# Altium footprint library QFN50P400X400X80-25N-D.PcbLib: 1 footprints
Each footprint in its own frame and in the unit in brackets; x right, y up, seen from the top. Pads: shape width x height; smd on the part's side, far side on the other; paste and mask are expansions set on the pad; w line width, h text height; cw(c..) or ccw(c..) is an arc to the next point about the centre after c.
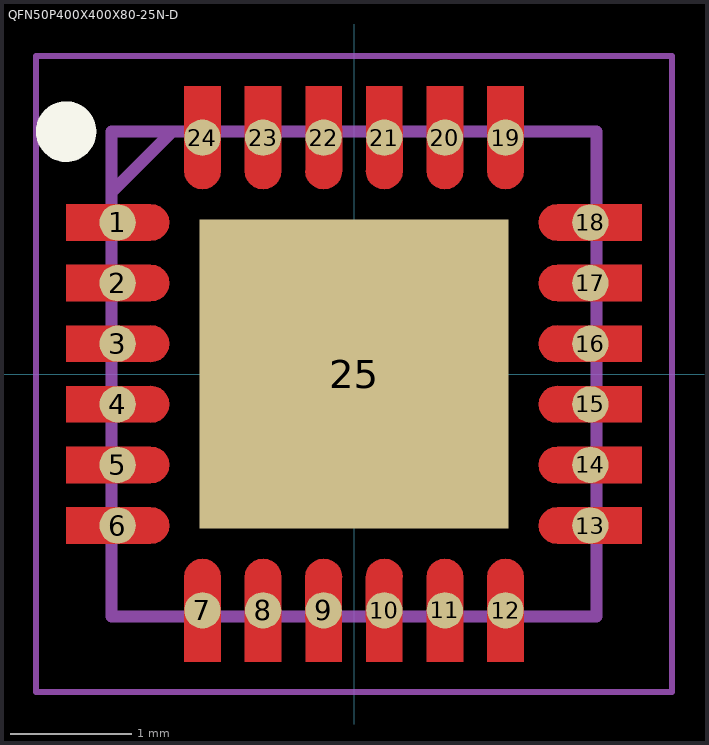
[diagram p0: the footprint, top view; thin cyan lines are the x and y axes]

## QFN50P400X400X80-25N-D [mm]
pads (25):
  round 0.3 smd: 1(-1.95,1.25) 2(-1.95,0.75) 3(-1.95,0.25) 4(-1.95,-0.25) 5(-1.95,-0.75) 6(-1.95,-1.25) 7(-1.25,-1.95) 8(-0.75,-1.95) 9(-0.25,-1.95) 10(0.25,-1.95) 11(0.75,-1.95) 12(1.25,-1.95) 13(1.95,-1.25) 14(1.95,-0.75) 15(1.95,-0.25) 16(1.95,0.25) 17(1.95,0.75) 18(1.95,1.25) 19(1.25,1.95) 20(0.75,1.95) 21(0.25,1.95) 22(-0.25,1.95) 23(-0.75,1.95) 24(-1.25,1.95)
  rrect0% 2.55x2.55 smd: 25(0,0)
Top Layer:
  region: -1.1,2.375 -1.099,1.675 -1.104,1.636 -1.119,1.599 -1.143,1.568 -1.174,1.544 -1.211,1.529 -1.25,1.524 -1.289,1.529 -1.326,1.544 -1.357,1.568 -1.381,1.599 -1.396,1.636 -1.401,1.675 -1.4,1.675 -1.4,2.375
  region: -0.6,2.375 -0.599,1.675 -0.604,1.636 -0.619,1.599 -0.643,1.568 -0.674,1.544 -0.711,1.529 -0.75,1.524 -0.789,1.529 -0.826,1.544 -0.857,1.568 -0.881,1.599 -0.896,1.636 -0.901,1.675 -0.9,1.675 -0.9,2.375
  region: -0.1,2.375 -0.099,1.675 -0.104,1.636 -0.119,1.599 -0.143,1.568 -0.174,1.544 -0.211,1.529 -0.25,1.524 -0.289,1.529 -0.326,1.544 -0.357,1.568 -0.381,1.599 -0.396,1.636 -0.401,1.675 -0.4,1.675 -0.4,2.375
  region: 0.4,2.375 0.401,1.675 0.396,1.636 0.381,1.599 0.357,1.568 0.326,1.544 0.289,1.529 0.25,1.524 0.211,1.529 0.174,1.544 0.143,1.568 0.119,1.599 0.104,1.636 0.099,1.675 0.1,1.675 0.1,2.375
  region: 0.9,2.375 0.901,1.675 0.896,1.636 0.881,1.599 0.857,1.568 0.826,1.544 0.789,1.529 0.75,1.524 0.711,1.529 0.674,1.544 0.643,1.568 0.619,1.599 0.604,1.636 0.599,1.675 0.6,1.675 0.6,2.375
  region: 1.4,2.375 1.401,1.675 1.396,1.636 1.381,1.599 1.357,1.568 1.326,1.544 1.289,1.529 1.25,1.524 1.211,1.529 1.174,1.544 1.143,1.568 1.119,1.599 1.104,1.636 1.099,1.675 1.1,1.675 1.1,2.375
  region: 2.375,1.1 1.675,1.099 1.636,1.104 1.599,1.119 1.568,1.143 1.544,1.174 1.529,1.211 1.524,1.25 1.529,1.289 1.544,1.326 1.568,1.357 1.599,1.381 1.636,1.396 1.675,1.401 1.675,1.4 2.375,1.4
  region: 2.375,0.6 1.675,0.599 1.636,0.604 1.599,0.619 1.568,0.643 1.544,0.674 1.529,0.711 1.524,0.75 1.529,0.789 1.544,0.826 1.568,0.857 1.599,0.881 1.636,0.896 1.675,0.901 1.675,0.9 2.375,0.9
  region: 2.375,0.1 1.675,0.099 1.636,0.104 1.599,0.119 1.568,0.143 1.544,0.174 1.529,0.211 1.524,0.25 1.529,0.289 1.544,0.326 1.568,0.357 1.599,0.381 1.636,0.396 1.675,0.401 1.675,0.4 2.375,0.4
  region: 2.375,-0.4 1.675,-0.401 1.636,-0.396 1.599,-0.381 1.568,-0.357 1.544,-0.326 1.529,-0.289 1.524,-0.25 1.529,-0.211 1.544,-0.174 1.568,-0.143 1.599,-0.119 1.636,-0.104 1.675,-0.099 1.675,-0.1 2.375,-0.1
  region: 2.375,-0.9 1.675,-0.901 1.636,-0.896 1.599,-0.881 1.568,-0.857 1.544,-0.826 1.529,-0.789 1.524,-0.75 1.529,-0.711 1.544,-0.674 1.568,-0.643 1.599,-0.619 1.636,-0.604 1.675,-0.599 1.675,-0.6 2.375,-0.6
  region: 2.375,-1.4 1.675,-1.401 1.636,-1.396 1.599,-1.381 1.568,-1.357 1.544,-1.326 1.529,-1.289 1.524,-1.25 1.529,-1.211 1.544,-1.174 1.568,-1.143 1.599,-1.119 1.636,-1.104 1.675,-1.099 1.675,-1.1 2.375,-1.1
  region: 1.1,-2.375 1.099,-1.675 1.104,-1.636 1.119,-1.599 1.143,-1.568 1.174,-1.544 1.211,-1.529 1.25,-1.524 1.289,-1.529 1.326,-1.544 1.357,-1.568 1.381,-1.599 1.396,-1.636 1.401,-1.675 1.4,-1.675 1.4,-2.375
  region: 0.6,-2.375 0.599,-1.675 0.604,-1.636 0.619,-1.599 0.643,-1.568 0.674,-1.544 0.711,-1.529 0.75,-1.524 0.789,-1.529 0.826,-1.544 0.857,-1.568 0.881,-1.599 0.896,-1.636 0.901,-1.675 0.9,-1.675 0.9,-2.375
  region: 0.1,-2.375 0.099,-1.675 0.104,-1.636 0.119,-1.599 0.143,-1.568 0.174,-1.544 0.211,-1.529 0.25,-1.524 0.289,-1.529 0.326,-1.544 0.357,-1.568 0.381,-1.599 0.396,-1.636 0.401,-1.675 0.4,-1.675 0.4,-2.375
  region: -0.4,-2.375 -0.401,-1.675 -0.396,-1.636 -0.381,-1.599 -0.357,-1.568 -0.326,-1.544 -0.289,-1.529 -0.25,-1.524 -0.211,-1.529 -0.174,-1.544 -0.143,-1.568 -0.119,-1.599 -0.104,-1.636 -0.099,-1.675 -0.1,-1.675 -0.1,-2.375
  region: -0.9,-2.375 -0.901,-1.675 -0.896,-1.636 -0.881,-1.599 -0.857,-1.568 -0.826,-1.544 -0.789,-1.529 -0.75,-1.524 -0.711,-1.529 -0.674,-1.544 -0.643,-1.568 -0.619,-1.599 -0.604,-1.636 -0.599,-1.675 -0.6,-1.675 -0.6,-2.375
  region: -1.4,-2.375 -1.401,-1.675 -1.396,-1.636 -1.381,-1.599 -1.357,-1.568 -1.326,-1.544 -1.289,-1.529 -1.25,-1.524 -1.211,-1.529 -1.174,-1.544 -1.143,-1.568 -1.119,-1.599 -1.104,-1.636 -1.099,-1.675 -1.1,-1.675 -1.1,-2.375
  region: -2.375,-1.1 -1.675,-1.099 -1.636,-1.104 -1.599,-1.119 -1.568,-1.143 -1.544,-1.174 -1.529,-1.211 -1.524,-1.25 -1.529,-1.289 -1.544,-1.326 -1.568,-1.357 -1.599,-1.381 -1.636,-1.396 -1.675,-1.401 -1.675,-1.4 -2.375,-1.4
  region: -2.375,-0.6 -1.675,-0.599 -1.636,-0.604 -1.599,-0.619 -1.568,-0.643 -1.544,-0.674 -1.529,-0.711 -1.524,-0.75 -1.529,-0.789 -1.544,-0.826 -1.568,-0.857 -1.599,-0.881 -1.636,-0.896 -1.675,-0.901 -1.675,-0.9 -2.375,-0.9
  region: -2.375,-0.1 -1.675,-0.099 -1.636,-0.104 -1.599,-0.119 -1.568,-0.143 -1.544,-0.174 -1.529,-0.211 -1.524,-0.25 -1.529,-0.289 -1.544,-0.326 -1.568,-0.357 -1.599,-0.381 -1.636,-0.396 -1.675,-0.401 -1.675,-0.4 -2.375,-0.4
  region: -2.375,0.4 -1.675,0.401 -1.636,0.396 -1.599,0.381 -1.568,0.357 -1.544,0.326 -1.529,0.289 -1.524,0.25 -1.529,0.211 -1.544,0.174 -1.568,0.143 -1.599,0.119 -1.636,0.104 -1.675,0.099 -1.675,0.1 -2.375,0.1
  region: -2.375,0.9 -1.675,0.901 -1.636,0.896 -1.599,0.881 -1.568,0.857 -1.544,0.826 -1.529,0.789 -1.524,0.75 -1.529,0.711 -1.544,0.674 -1.568,0.643 -1.599,0.619 -1.636,0.604 -1.675,0.599 -1.675,0.6 -2.375,0.6
  region: -2.375,1.4 -1.675,1.401 -1.636,1.396 -1.599,1.381 -1.568,1.357 -1.544,1.326 -1.529,1.289 -1.524,1.25 -1.529,1.211 -1.544,1.174 -1.568,1.143 -1.599,1.119 -1.636,1.104 -1.675,1.099 -1.675,1.1 -2.375,1.1
Top Overlay:
  circle w0.25: c-2.375,2 r0.125
Mechanical 15:
  lines w0.1: -2,1.5 -1.5,2 ; -2,-2 -2,2 2,2 2,-2 -2,-2
Mechanical 20:
  lines w0.05: -2.625,-2.625 -2.625,2.625 2.625,2.625 2.625,-2.625 -2.625,-2.625
3D body "CP2102N-A02-GQFN24R.stp": height 0.8, standoff 0, extent -2.068,-2.068 2.032,2.032